# Altium footprint library CommonFiles_Library.PcbLib: 24 footprints (part 2 of 2)
Each footprint in its own frame and in the unit in brackets; x right, y up, seen from the top. Pads: shape width x height; smd on the part's side, far side on the other; paste and mask are expansions set on the pad; w line width, h text height; cw(c..) or ccw(c..) is an arc to the next point about the centre after c.
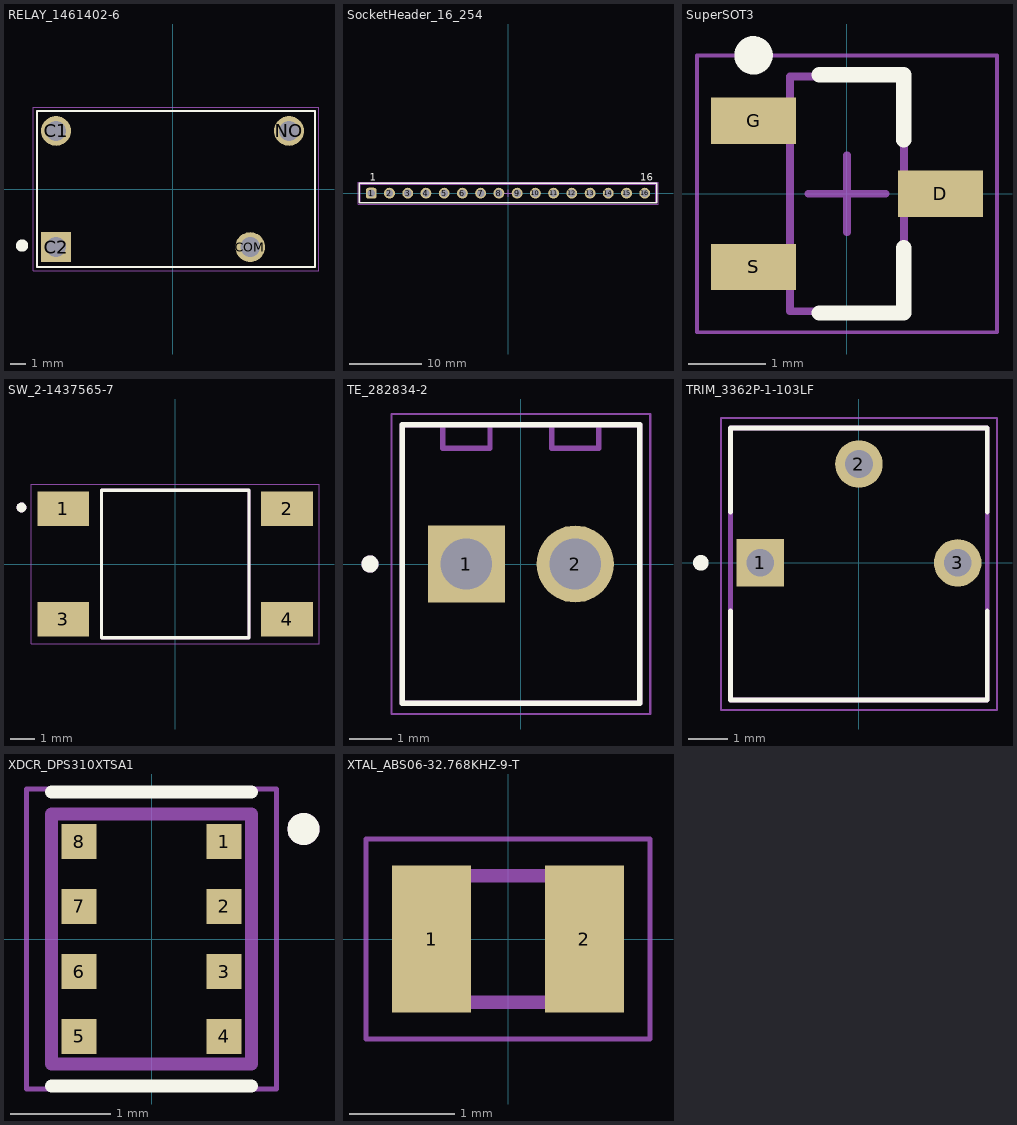
[diagram p1: the footprints below, top view; thin cyan lines are the x and y axes]

## RELAY_1461402-6 [mm]
pads (4):
  round 1.95 hole 1.3: C1(-7.62,3.8) COM(5.08,-3.8) NO(7.62,3.8)
  rect 1.95x1.95 hole 1.3: C2(-7.62,-3.8)
Top Overlay:
  circle w0.4: c-9.84,-3.7 r0.2
  lines w0.127: -8.87,-5.1 9.33,-5.1 9.33,5.1 -8.87,5.1 -8.87,-5.1
Top 3D Body:
  circle w0.4: c-7.62,-3.8 r0.2
  lines w0.127: -8.87,-5.1 -8.87,5.1 9.33,5.1 9.33,-5.1 -8.87,-5.1
Top Courtyard:
  lines w0.05: -9.12,-5.35 9.58,-5.35 9.58,5.35 -9.12,5.35 -9.12,-5.35
3D body "1461404-6.stp": height 14.85, standoff -3.85, extent -8.846,-5.1 9.354,5.1

## SocketHeader_16_254 [mm] "Socket Header, Pitch 2.54 mm, THT, Vertical, single row, 16p"
height 8.5
pads (16):
  rrect50% 1.52x1.52 hole 1.02: 1(-19.05,0)
  round 1.52 hole 1.02: 2(-16.51,0) 3(-13.97,0) 4(-11.43,0) 5(-8.89,0) 6(-6.35,0) 7(-3.81,0) 8(-1.27,0) 9(1.27,0) 10(3.81,0) 11(6.35,0) 12(8.89,0) 13(11.43,0) 14(13.97,0) 15(16.51,0) 16(19.05,0)
Top Overlay:
  lines w0.2: -20.695,-1.35 -20.695,1.35 20.695,1.35 20.695,-1.35 -20.695,-1.35
  text "1" at -19.24,1.7 h1.02
  text "16" at 18.42,1.7 h1.02
Top Designator:
  text ".Designator" at -7.498,-0.5 h1.5
Top Component Outline:
  lines w0.1: -20.57,-1.25 -20.57,1.25 20.57,1.25 20.57,-1.25 -20.57,-1.25
Top 3D Body:
  lines w0.1: -20.57,-1.25 -20.57,1.25 20.57,1.25 20.57,-1.25 -20.57,-1.25
Top Courtyard:
  lines w0.05: -0.5,0 0.5,0 ; 0,-0.5 0,0.5 ; -20.895,-1.55 -20.895,1.55 20.895,1.55 20.895,-1.55 -20.895,-1.55
3D body "61301611821.stp": height 8.55, standoff -3.06, extent -20.57,-1.25 20.57,1.25

## SuperSOT3 [mm] "SOT23, 3-Leads, Body 2,92x2,51mm, Pitch 0,95mm, IPC Medium Density"
height 0.93
pads (3):
  rect 1.1x0.6 smd: D(1.215,0) G(-1.215,0.95) S(-1.215,-0.95)
Top Overlay:
  circle w0.25: c-1.215,1.8 r0.125
  lines w0.2: -0.36,-1.55 0.74,-1.55 0.74,-0.7 ; -0.36,1.55 0.74,1.55 0.74,0.7
Top 3D Body:
  lines w0.1: -0.74,-1.525 -0.74,1.525 0.74,1.525 0.74,-1.525 -0.74,-1.525
Top Courtyard:
  lines w0.05: -1.95,-1.8 -1.95,1.8 1.95,1.8 1.95,-1.8 -1.95,-1.8
  lines w0.1: -0.5,0 0.5,0 ; 0,-0.5 0,0.5
3D body "SuperSOT3.step": height 0.93, standoff 0, extent -1.32,-1.525 1.32,1.525

## SW_2-1437565-7 [mm]
pads (4):
  rect 2.1x1.4 smd: 1(-4.55,2.25) 2(4.55,2.25) 3(-4.55,-2.25) 4(4.55,-2.25)
Top Overlay:
  circle w0.2: c-6.25,2.3 r0.1
  lines w0.127: -3,-3 3,-3 3,3 -3,3 -3,-3
Top 3D Body:
  circle w0.2: c-6.25,2.3 r0.1
  lines w0.127: -3,-3 -3,3 3,3 3,-3 -3,-3
Top Courtyard:
  lines w0.05: -5.85,-3.25 -5.85,3.25 5.85,3.25 5.85,-3.25 -5.85,-3.25
3D body "TS04-66-85-BK-100-SMT.stp": height 8.5, standoff -0.1, extent -5,-3 5,3

## TE_282834-2 [mm]
height 10
pads (2):
  rect 1.8x1.8 / inner round 1.8 / far side rect 1.8x1.8 hole 1.2: 1(-1.27,0)
  round 1.8 hole 1.2: 2(1.27,0)
Top Overlay:
  circle w0.2: c-3.52,0 r0.1
  lines w0.127: -2.77,-3.25 2.77,-3.25 2.77,3.25 -2.77,3.25 -2.77,-3.25
Top 3D Body:
  circle w0.2: c-3.52,0 r0.1
  lines w0.127: -1.82,3.2 -1.82,2.7 -0.72,2.7 -0.72,3.2 ; 0.72,3.2 0.72,2.7 1.82,2.7 1.82,3.2 ; -2.77,-3.25 2.77,-3.25 2.77,3.25 -2.77,3.25 -2.77,-3.25
Top Courtyard:
  lines w0.05: -3.02,-3.5 -3.02,3.5 3.02,3.5 3.02,-3.5 -3.02,-3.5
3D body "VN02A1500000G.stp": height 8.7, standoff -3.3, extent -2.73,-3.3 2.75,3.2

## TRIM_3362P-1-103LF [mm]
pads (3):
  rect 1.222x1.222 / inner round 1.222 / far side rect 1.222x1.222 hole 0.714: 1(-2.54,0)
  round 1.222 hole 0.714: 2(0,2.54) 3(2.54,0)
Top Overlay:
  circle w0.2: c-4.064,0 r0.1
  lines w0.127: -3.3,-3.53 3.3,-3.53 ; -3.3,-3.52 -3.3,-1.235 ; -3.3,1.305 -3.3,3.47 3.3,3.47 3.3,1.305 ; 3.3,-3.52 3.3,-1.235
Top 3D Body:
  lines w0.127: -3.3,-3.53 -3.3,3.47 3.3,3.47 3.3,-3.53 -3.3,-3.53
Top Courtyard:
  lines w0.05: -3.55,-3.78 -3.55,3.72 3.55,3.72 3.55,-3.78 -3.55,-3.78
3D body "step_temp.STEP": height 4.88, standoff -5.84, extent -3.3,-3.495 3.3,3.495

## XDCR_DPS310XTSA1 [mm]
pads (8):
  rect 0.35x0.35 smd paste-1: 1(0.725,0.975) 2(0.725,0.325) 3(0.725,-0.325) 4(0.725,-0.975) 5(-0.725,-0.975) 6(-0.725,-0.325) 7(-0.725,0.325) 8(-0.725,0.975)
Top Overlay:
  circle w0.16: c1.52,1.1 r0.08
  lines w0.127: -1,-1.47 1,-1.47 ; -1,1.47 1,1.47
Top Paste:
  circle w0.175: c0.725,-0.975 r0.088
  circle w0.175: c0.725,-0.325 r0.088
  circle w0.175: c0.725,0.325 r0.088
  circle w0.175: c0.725,0.975 r0.088
  circle w0.175: c-0.725,-0.975 r0.088
  circle w0.175: c-0.725,-0.325 r0.088
  circle w0.175: c-0.725,0.325 r0.088
  circle w0.175: c-0.725,0.975 r0.088
Top 3D Body:
  circle w0.16: c1.52,1.1 r0.08
  lines w0.127: -1,-1.25 1,-1.25 1,1.25 -1,1.25 -1,-1.25
Top Courtyard:
  lines w0.05: -1.25,-1.5 1.25,-1.5 1.25,1.5 -1.25,1.5 -1.25,-1.5
3D body "DPS310XTSA1.stp": height 1, standoff 0, extent -1,-1.25 1,1.25

## XTAL_ABS06-32.768KHZ-9-T [mm]
height 0.6
pads (2):
  rect 0.75x1.4 smd: 1(-0.725,0) 2(0.725,0)
Top 3D Body:
  lines w0.127: -1,-0.6 -1,0.6 1,0.6 1,-0.6 -1,-0.6
Top Courtyard:
  lines w0.05: -1.35,-0.95 -1.35,0.95 1.35,0.95 1.35,-0.95 -1.35,-0.95
3D body "step_temp.STEP": height 0.61, standoff 0, extent -1.003,-0.597 1.003,0.597